# EAGLE library part 2.4-SPI-TFT-TOUCH-SSD-MODULE (library displays)
2.4" SPI TFT Module Driver: ILI9341 DOTS: 240x320 Touch: YES
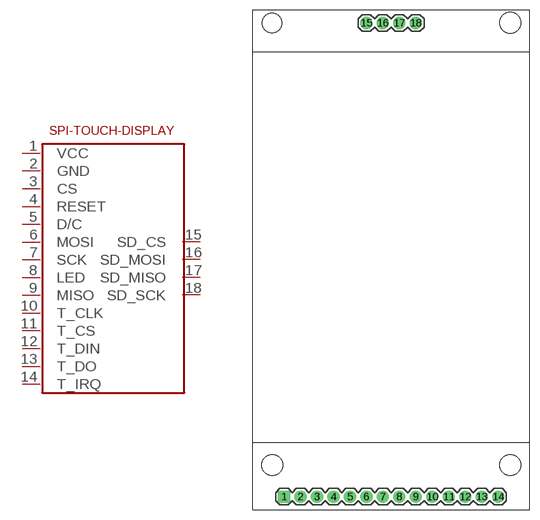
[diagram p2: symbol with the pads of 2.4-SPI-TFT-TOUCH-SSD-MODULE; footprint 2.4-SPI-TFT-TOUCH-SSD-MODULE]

Designator prefix -

## 2.4-SPI-TFT-TOUCH-SSD-MODULE  [2.4-SPI-TFT-TOUCH-SSD-MODULE]
1  VCC  pwr
2  GND  pwr
3  CS
4  RESET
5  D/C
6  MOSI
7  SCK
8  LED
9  MISO
10  T_CLK
11  T_CS
12  T_DIN
13  T_DO
14  T_IRQ
15  SD_CS
16  SD_MOSI
17  SD_MISO
18  SD_SCK

## Footprint 2.4-SPI-TFT-TOUCH-SSD-MODULE (pad centres in mm)
drill 1.016 pad 1.88 square: 1 4.83,2.02
drill 1.016 pad 1.88: 2 7.37,2.02; 3 9.91,2.02; 4 12.45,2.02; 5 14.99,2.02; 6 17.53,2.02; 7 20.07,2.02; 8 22.61,2.02; 9 25.15,2.02; 10 27.69,2.02; 11 30.23,2.02; 12 32.77,2.02; 13 35.31,2.02; 14 37.85,2.02; 15 17.52,75.14; 16 20.06,75.14; 17 22.6,75.14; 18 25.14,75.14
hole 3 at 3,75.16
hole 3.2 at 39.72,75.16
hole 3.2 at 39.72,6.92
hole 3.2 at 3,6.92